# Altium integrated library ST-7-56.IntLib: 1 symbol
Pins are listed as number, name and electrical type; pins without a type are passive.

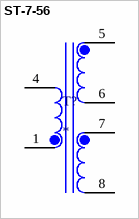
[diagram p0: symbol ST-7-56]

## ST-7-56
designator T?
Split Bobbin Low Power Transformer | 36VA Power | 115V Input | 10VCT Output Series; MP: ST-7-56; Package: None; Price: None; Value: *; Availability: Unavailable
footprint XFMR_ST-7-56
pins: 1, 4, 5, 6, 7, 8